# Altium schematic symbol library HARSH_Payload_SchLib.SchLib: 93 symbols (part 1 of 4)
Pins are listed as number, name and electrical type; pins without a type are passive.

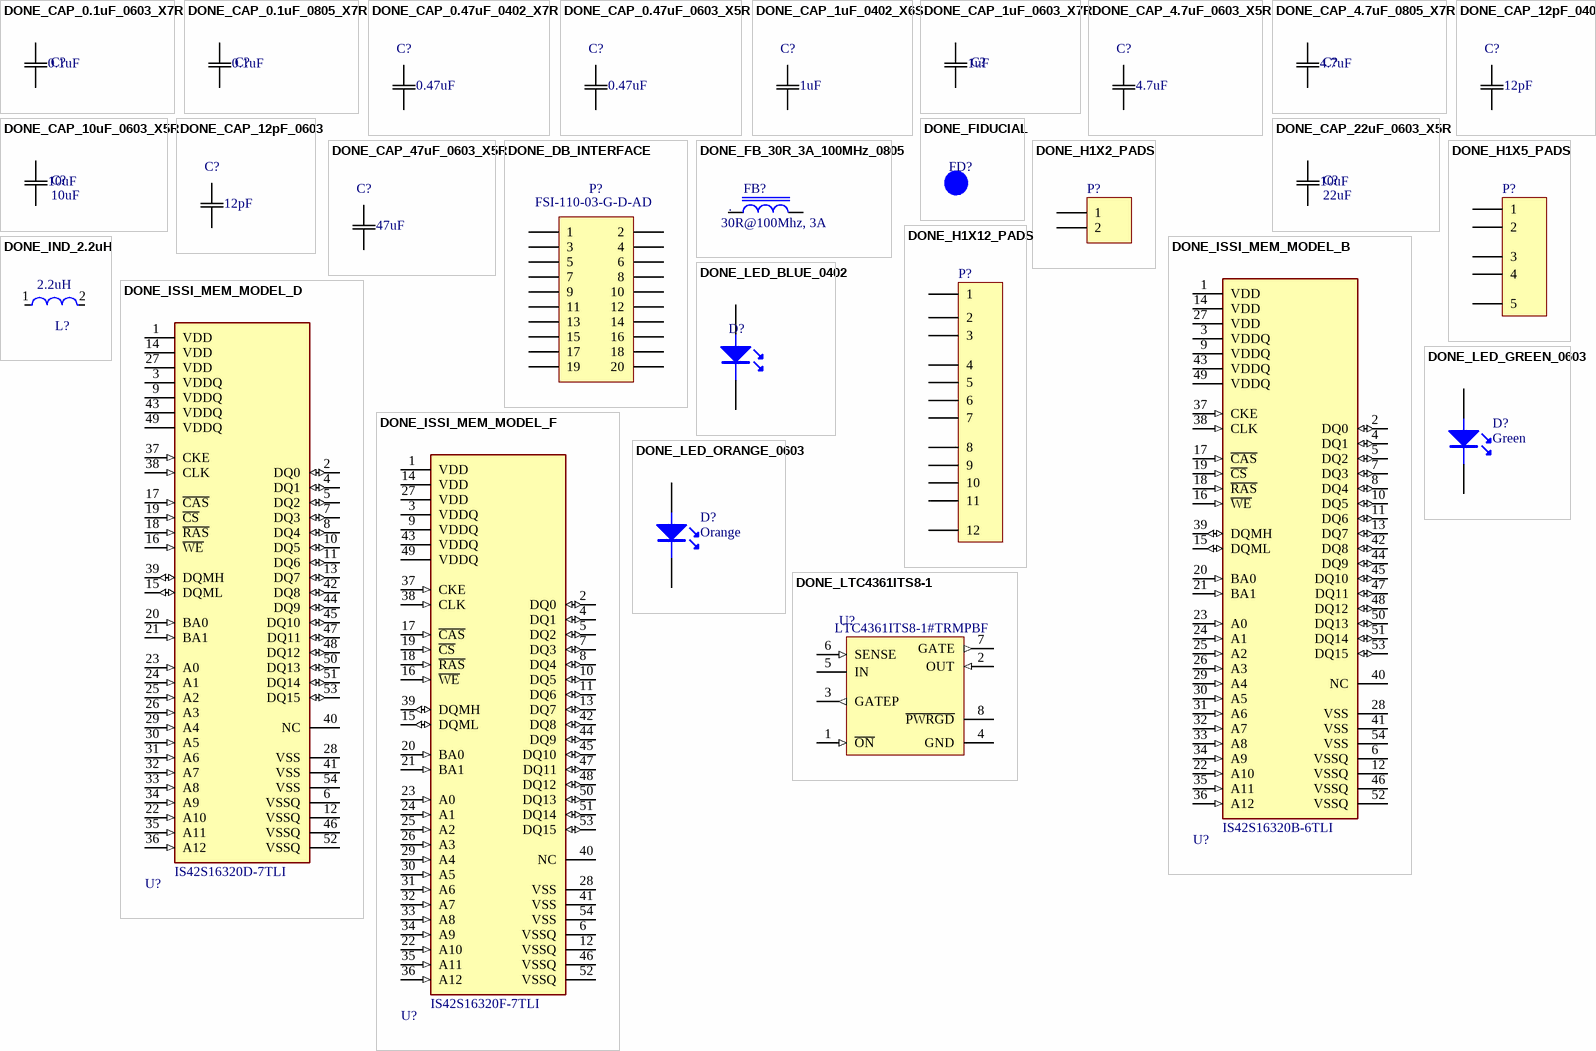
[diagram p0: symbols DONE_CAP_0.1uF_0603_X7R to DONE_LTC4361ITS8-1]

## DONE_CAP_0.1uF_0603_X7R
designator C?, comment Capacitance: 0.1uF  (hidden comment: 100nF/50V)
CAP CER 100nF 50V 0603 10%; Partnumber: C0603C104K5RAC3121; Manufacturer: Yageo; Dielectric: X7R; NCM: 8532.24.10; ComponentLink1Description: https://www.digikey.com/product-detail/en/yageo/CC0201KRX7R9BB101/311-1401-1-ND/2833707; ComponentLink1URL: https://www.digikey.com/product-detail/en/yageo/CC0201KRX7R9BB101/311-1401-1-ND/2833707; ComponentLink2Description: https://br.mouser.com/ProductDetail/Yageo/CC0201KRX7R9BB101?qs=%2Fha2pyFaduiYipKOFrxfqt3%252B9aGSfhofiweIoBBppi5CkwQHqUahpQ%3D%3D; ComponentLink2URL: https://br.mouser.com/ProductDetail/Yageo/CC0201KRX7R9BB101?qs=%2Fha2pyFaduiYipKOFrxfqt3%252B9aGSfhofiweIoBBppi5CkwQHqUahpQ%3D%3D; Supplier 1: Digi-Key; Supplier Part Number 1: 311-1401-1-ND; Stock 1: 203642; Pricing 1: 1=0.1, 10=0.017, 100=0.0078, 500=0.00554, 1000=0.00436, 2500=0.00396, 5000=0.00364 (USD); Mount: Surface Mount; Case/Package: 0201; Weight: 6E-06oz; Case Code (Metric): 0603; Case Code (Imperial): 0201; Min Operating Temperature: -55°C; Max Operating Temperature: 125°C; Tolerance: 10%; Package Quantity: 1; Voltage Rating: 50V; Packaging: Tape and Reel; Voltage Rating (DC): 50V; Termination: SMD/SMT; Composition: Ceramic; Length: 0.6mm; Height: 0.3mm; Width: 0.012inch; Thickness: 0.013inch; Depth: 0.3mm; Radiation Hardening: No; Lead Free: Lead Free; Halogen Free: Halogen Free; ComponentLink3URL: http://www.yageo.com/documents/recent/UPY-GPHC_X7R_6.3V-to-50V_18.pdf?src-supplier=Digi-Key; ComponentLink3Description: http://www.yageo.com/documents/recent/UPY-GPHC_X7R_6.3V-to-50V_18.pdf?src-supplier=Digi-Key; ComponentLink4URL: http://www.yageo.com/documents/recent/UPY-GPHC_X7R_6.3V-to-50V_8.pdf?src-supplier=Avnet+Europe; ComponentLink4Description: http://www.yageo.com/documents/recent/UPY-GPHC_X7R_6.3V-to-50V_8.pdf?src-supplier=Avnet+Europe; ComponentLink5URL: http://www.yageo.com/documents/recent/UPY-GPHC_X7R_6.3V-to-50V_8.pdf?src-supplier=Avnet; ComponentLink5Description: http://www.yageo.com/documents/recent/UPY-GPHC_X7R_6.3V-to-50V_8.pdf?src-supplier=Avnet; ComponentLink6URL: http://www.mouser.com/ds/2/447/Yageo_UPY-GP_NP0_16V-to-50V_9-358835.pdf?src-supplier=Mouser; ComponentLink6Description: http://www.mouser.com/ds/2/447/Yageo_UPY-GP_NP0_16V-to-50V_9-358835.pdf?src-supplier=Mouser; Supplier 2: Mouser; Supplier Part Number 2: 603-CC201KRX7R9BB101; Stock 2: 51204; Pricing 2: 1=0.1, 10=0.024, 100=0.011, 1000=0.009, 2500=0.006, 10000=0.006 (USD)
footprint DONE_C0603 (Chip Capacitor, Body 1.6x0.8mm, IPC Medium Density)
pins: 1, 2

## DONE_CAP_0.1uF_0805_X7R
designator C?, comment Capacitance: 0.1uF  (hidden comment: 0.1uF/25V)
CAP CER 0.1UF 25V 10% X7R 0805; Partnumber: CC0805KRX7R8BB104; Manufacturer: Yageo; Material: Ceramic; Insulation Resistance: 100GR; NCM: 8532.24.10; Stock 1: 243958; Pricing 1: 1=0.14, 10=0.097, 100=0.0458, 500=0.0321, 1000=0.02658 (USD); Mount: Surface Mount; Case/Package: 0805; Number of Pins: 2; Case Code (Metric): 2012; Case Code (Imperial): 0805; Min Operating Temperature: -55°C; Max Operating Temperature: 125°C; Tolerance: 10%; Dielectric: X7R; Package Quantity: 1; Voltage Rating: 25V; Packaging: Tape and Reel; Voltage Rating (DC): 25V; Termination: SMD/SMT; Composition: Ceramic; Length: 2mm; Height: 0.85mm; Depth: 1.25mm; Width: 0.049inch; Thickness: 0.033inch; Radiation Hardening: No; REACH SVHC: No SVHC; Lead Free: Lead Free; Halogen Free: Halogen Free; ComponentLink3URL: http://www.yageo.com/documents/recent/UPY-GPHC_X7R_6.3V-to-50V_18.pdf?src-supplier=Digi-Key; ComponentLink3Description: http://www.yageo.com/documents/recent/UPY-GPHC_X7R_6.3V-to-50V_18.pdf?src-supplier=Digi-Key; ComponentLink4URL: http://www.farnell.com/datasheets/1489800.pdf?src-supplier=Element14; ComponentLink4Description: http://www.farnell.com/datasheets/1489800.pdf?src-supplier=Element14; ComponentLink5URL: http://www.farnell.com/datasheets/1850775.pdf?src-supplier=Element14; ComponentLink5Description: http://www.farnell.com/datasheets/1850775.pdf?src-supplier=Element14; ComponentLink6URL: https://www.verical.com/server-webapp/html/getDatasheet?partID=330244&src-supplier=Verical; ComponentLink6Description: https://www.verical.com/server-webapp/html/getDatasheet?partID=330244&src-supplier=Verical; ComponentLink7URL: http://www.yageo.com/documents/recent/UPY-GPHC_X7R_6.3V-to-50V_8.pdf?src-supplier=Avnet+Europe; ComponentLink7Description: http://www.yageo.com/documents/recent/UPY-GPHC_X7R_6.3V-to-50V_8.pdf?src-supplier=Avnet+Europe; ComponentLink8URL: http://www.farnell.com/datasheets/1784427.pdf?src-supplier=Element14; ComponentLink8Description: http://www.farnell.com/datasheets/1784427.pdf?src-supplier=Element14; ComponentLink9URL: http://www.farnell.com/datasheets/70765.pdf?src-supplier=Element14; ComponentLink9Description: http://www.farnell.com/datasheets/70765.pdf?src-supplier=Element14; Stock 2: 131050; Pricing 2: 1=0.11, 10=0.08, 100=0.03, 1000=0.025, 4000=0.019, 8000=0.018, 24000=0.015, 48000=0.014, 100000=0.013 (USD); ComponentLink1URL: http://www.yageo.com/documents/recent/UPY-GPHC_X7R_6.3V-to-50V_18.pdf?src-supplier=Digi-Key; ComponentLink1Description: http://www.yageo.com/documents/recent/UPY-GPHC_X7R_6.3V-to-50V_18.pdf?src-supplier=Digi-Key; ComponentLink2URL: http://www.farnell.com/datasheets/1489800.pdf?src-supplier=Element14; ComponentLink2Description: http://www.farnell.com/datasheets/1489800.pdf?src-supplier=Element14; Supplier Part Number 2: 603-CC805KRX7R8BB104; Supplier Part Number 1: 311-1141-1-ND; Supplier 2: Mouser; Supplier 1: Digi-Key; Manufacturer Part Number: CC0805KRX7R8BB104
footprint DONE_C0805 (Chip Capacitor, Body 2.0x1.3mm, IPC Medium Density)
pins: 1, 2

## DONE_CAP_0.47uF_0402_X7R
designator C?, comment value 0.47uF  (hidden comment: GRM155R71A474KE01D)
CAP CER 0.47UF 10V X7R 0402; Manufacturer: Murata; Mount Type: SMD; Category: Ceramic; Dielectric: X7R; Supplier 1: Allied; Supplier 2: Mouser; Supplier 3: Newark; Supplier 4: Digi-Key; Supplier 5: Farnell; Supplier Part Number 1: 70096227; Partnumber: GRM155R71A474KE01D; Voltage: 10V
footprint DONE_C0402 (0402M)
pins: 1, 2

## DONE_CAP_0.47uF_0603_X5R
designator C?, comment value 0.47uF  (hidden comment: LMK063BBJ474MPLF)
CAP CER 0.47UF 10V 20% X5R 0603; Manufacturer: Kemet; Mount Type: SMD; Category: Ceramic; Dielectric: X5R; Supplier 1: Allied; Supplier 2: Mouser; Supplier 3: Newark; Supplier 4: Digi-Key; Supplier 5: Farnell; Supplier Part Number 1: 70096227; Partnumber: LMK063BBJ474MPLF; Voltage: 10V
footprint DONE_C0603 (Chip Capacitor, Body 1.6x0.8mm, IPC Medium Density)
pins: 1, 2

## DONE_CAP_1uF_0402_X6S
designator C?, comment 1uF
CAP CER 1uF 10V 10% X6S 0402; Manufacturer_Part_Number: CGB2A1X6S1A105M033BC; Vendor: TDK; Built_By: EMA_UL_Team; Type: DEV; C: Copyright (C) 2015 Accelerated Designs. All rights reserved; Tolerance: 20%; RefDes: RefDes; Value: Value; Supplier 1: Digi-Key; Manufacturer: TDK; Partnumber: CGB2A1X6S1A105M033BC; Stock 1: 100468; Pricing 1: 1=0.24, 10=0.173, 100=0.0813, 500=0.057, 1000=0.0472, 2500=0.0439, 5000=0.0402 (USD); Mount: Surface Mount; Case/Package: 0402; Case Code (Metric): 1005; Case Code (Imperial): 0402; Min Operating Temperature: -55°C; Max Operating Temperature: 105°C; Package Quantity: 10000; Packaging: Tape and Reel; Voltage Rating: 10V; Dielectric: X6S; Termination: SMD/SMT; Composition: Ceramic; Voltage Rating (DC): 10V; Length: 0.039inch; Height: 0.33mm; Width: 0.02inch; Thickness: 0.013inch; ComponentLink1URL: https://product.tdk.com/info/en/catalog/datasheets/mlcc_commercial_lowprofile_en.pdf; ComponentLink1Description: https://product.tdk.com/info/en/catalog/datasheets/mlcc_commercial_lowprofile_en.pdf; ComponentLink2URL: http://product.tdk.com/en/catalog/datasheets/mlcc_commercial_lowprofile_en.pdf; ComponentLink2Description: http://product.tdk.com/en/catalog/datasheets/mlcc_commercial_lowprofile_en.pdf; ComponentLink3URL: http://www.mouser.com/ds/2/400/lcc_commercial_lowprofile_en-520027.pdf; ComponentLink3Description: http://www.mouser.com/ds/2/400/lcc_commercial_lowprofile_en-520027.pdf; Supplier Part Number 1: 445-13192-1-ND; Capacitance: 1uF
footprint DONE_C0402 (0402M)
pins: 1, 2

## DONE_CAP_1uF_0603_X7R
designator C?, comment 1uF
CAP CER 1.0uF 25V 0603; Partnumber: GRM188R71E105KA12D; Value: 1uF
footprint DONE_C0603 (Chip Capacitor, Body 1.6x0.8mm, IPC Medium Density)
pins: 1, 2

## DONE_CAP_4.7uF_0603_X5R
designator C?, comment 4.7uF
CAP CER 4.7UF 10V 10% X5R 0603; Partnumber: C0603C475K8PACTU; Category: Ceramic; Dielectric: X5R; Voltage: 10V; Value: 4.7uF
footprint DONE_C0603 (Chip Capacitor, Body 1.6x0.8mm, IPC Medium Density)
pins: 1, 2

## DONE_CAP_4.7uF_0805_X7R
designator C?, comment Capacitance: 4.7uF  (hidden comment: 4.7uF/25V)
CAP CER 4.7UF 25V 10% X7R 0805; Partnumber: C0805C475K3RACAUTO; Manufacturer: Taiyo Yuden; Manufacturer Part Number: TMK212AB7475KG-T; NCM: 8532.24.10; ComponentLink1Description: https://www.digikey.com/product-detail/en/taiyo-yuden/TMK212AB7475KG-T/587-2990-2-ND/2714168; ComponentLink1URL: https://www.digikey.com/product-detail/en/taiyo-yuden/TMK212AB7475KG-T/587-2990-2-ND/2714168; ComponentLink2Description: https://br.mouser.com/ProductDetail/Taiyo-Yuden/TMK212AB7475KG-T?qs=%2Fha2pyFaduhOmvqoBXaf2AOtUPA8upoo0e72F1hCYb1lacT8UkHI0g%3D%3D; ComponentLink2URL: https://br.mouser.com/ProductDetail/Taiyo-Yuden/TMK212AB7475KG-T?qs=%2Fha2pyFaduhOmvqoBXaf2AOtUPA8upoo0e72F1hCYb1lacT8UkHI0g%3D%3D; Stock 1: 1594936; Pricing 1: 1=0.35, 10=0.243, 100=0.1376, 500=0.09716, 1000=0.08501 (USD); Mount: Surface Mount; Case/Package: 0805; Number of Pins: 2; Case Code (Metric): 2012; Case Code (Imperial): 0805; Min Operating Temperature: -55°C; Max Operating Temperature: 125°C; Package Quantity: 1; Voltage Rating: 25V; Tolerance: 10%; Packaging: Tape and Reel; Voltage Rating (DC): 25V; Dielectric: X7R; Termination: SMD/SMT; Composition: Ceramic; Length: 2mm; Height: 1.25mm; Width: 0.049inch; Thickness: 0.053inch; Depth: 1.25mm; Radiation Hardening: No; REACH SVHC: Unknown; ComponentLink3URL: https://www.yuden.co.jp/productdata/catalog/mlcc_all_e.pdf?src-supplier=Digi-Key; ComponentLink3Description: https://www.yuden.co.jp/productdata/catalog/mlcc_all_e.pdf?src-supplier=Digi-Key; ComponentLink4URL: http://www.yuden.co.jp/ut/product/category/capacitor/TMK212AB7475KG-T.pdf?src-supplier=Avnet; ComponentLink4Description: http://www.yuden.co.jp/ut/product/category/capacitor/TMK212AB7475KG-T.pdf?src-supplier=Avnet; ComponentLink5URL: http://www.farnell.com/datasheets/1481447.pdf?src-supplier=Element14; ComponentLink5Description: http://www.farnell.com/datasheets/1481447.pdf?src-supplier=Element14; ComponentLink6URL: http://www.onlinecomponents.com/productFiles/mf-TAI/461tmk212ab7475kg-t.pdf?src-supplier=Onlinecomponents.com; ComponentLink6Description: http://www.onlinecomponents.com/productFiles/mf-TAI/461tmk212ab7475kg-t.pdf?src-supplier=Onlinecomponents.com; Supplier 1: Digi-Key; Supplier Part Number 1: 587-2990-6-ND; Supplier 2: Mouser; Supplier Part Number 2: 963-TMK212AB7475KG-T; Stock 2: 326053; Pricing 2: 1=0.27, 10=0.124, 100=0.083, 500=0.074, 1000=0.065, 3000=0.054 (USD)
footprint DONE_C0805 (Chip Capacitor, Body 2.0x1.3mm, IPC Medium Density)
pins: 1, 2

## DONE_CAP_10uF_0603_X5R
designator C?, comment 10uF
CAP CER 10uF 16V 0603 X5R; Partnumber: GRM188R61C106KAALD; Manufacturer: Murata; Tolerance: 10%; NCM: 8532.24.10; Supplier 1: Digi-Key; Manufacturer Part Number: GRM188R61C106KAALD; Stock 1: 0; Pricing 1: 1=0.43, 10=0.302, 100=0.1811, 500=0.1358, 1000=0.1147 (USD); Mount: Surface Mount; Case/Package: 0603; Weight: 0.000222oz; Case Code (Metric): 1608; Case Code (Imperial): 0603; Min Operating Temperature: -55°C; Max Operating Temperature: 85°C; Packaging: Tape and Reel; Voltage Rating: 16V; Dielectric: X5R; Termination: SMD/SMT; Composition: Ceramic; Voltage Rating (DC): 16V; Package Quantity: 4000; Length: 0.063inch; Height: 0.8mm; Width: 0.8mm; Thickness: 0.037inch; REACH SVHC: No SVHC; Lead Free: Lead Free; ComponentLink1URL: http://www.farnell.com/datasheets/2079167.pdf; ComponentLink1Description: http://www.farnell.com/datasheets/2079167.pdf; ComponentLink2URL: http://www.mouser.com/ds/2/281/c02e-2905.pdf; ComponentLink2Description: http://www.mouser.com/ds/2/281/c02e-2905.pdf; ComponentLink3URL: http://search.murata.co.jp/Ceramy/image/img/A01X/partnumbering_e_01.pdf; ComponentLink3Description: http://search.murata.co.jp/Ceramy/image/img/A01X/partnumbering_e_01.pdf; Supplier Part Number 1: 490-10728-1-ND; Capacitance: 10uF
footprint DONE_C0603 (Chip Capacitor, Body 1.6x0.8mm, IPC Medium Density)
pins: 1, 2

## DONE_CAP_12pF_0402
designator C?, comment 12pF
CAP CER 12PF 50V C0G/NP0 0402; Partnumber: GRM1555C1H120GA01D; Case Code (Imperial): 0402; Voltage Rating: 50V; Voltage Rating (DC): 50v; Capacitance: 12pF
footprint DONE_C0402 (0402M)
pins: 1, 2

## DONE_CAP_12pF_0603
designator C?, comment 12pF
CAP CER 12PF 50V C0G/NPO 0603; Partnumber: CC0603JRNPO9BN120; Case Code (Imperial): 0603; Voltage Rating: 50V; Voltage Rating (DC): 50v; Capacitance: 12pF
footprint DONE_C0603 (Chip Capacitor, Body 1.6x0.8mm, IPC Medium Density)
pins: 1, 2

## DONE_CAP_22uF_0603_X5R
designator C?, comment 22uF  Capacitance: 10uF
CAP CER 22UF 10V X5R 0603; Partnumber: CL10A226MPCNUBE; ComponentLink1URL: http://www.farnell.com/datasheets/2079167.pdf; ComponentLink1Description: http://www.farnell.com/datasheets/2079167.pdf; ComponentLink2URL: http://www.mouser.com/ds/2/281/c02e-2905.pdf; ComponentLink2Description: http://www.mouser.com/ds/2/281/c02e-2905.pdf; ComponentLink3URL: http://search.murata.co.jp/Ceramy/image/img/A01X/partnumbering_e_01.pdf; ComponentLink3Description: http://search.murata.co.jp/Ceramy/image/img/A01X/partnumbering_e_01.pdf
footprint DONE_C0603 (Chip Capacitor, Body 1.6x0.8mm, IPC Medium Density)
pins: 1, 2

## DONE_CAP_47uF_0603_X5R
designator C?, comment value 47uF  (hidden comment: ZRB18AR60J476ME01L)
CAP CER 47UF 6.3V 20% X5R 0603; Voltage: 10V; Partnumber: ZRB18AR60J476ME01L
footprint DONE_C0603 (Chip Capacitor, Body 1.6x0.8mm, IPC Medium Density)
pins: 1, 2

## DONE_DB_INTERFACE
designator P?, comment FSI-110-03-G-D-AD
CONN STACKING 20POS SMD GOLD; Manufacturer: Samtec; Number of Contacts: 20; Gender: Male; Pitch: 1mm; Value: *; Partnumber: FSI-110-03-G-D-AD; ComponentLink1Description: https://www.digikey.com/product-detail/en/samtec-inc/FSI-110-03-G-D-AD/SAM9412-ND/6678149; ComponentLink1URL: https://www.digikey.com/product-detail/en/samtec-inc/FSI-110-03-G-D-AD/SAM9412-ND/6678149; ComponentLink2Description: https://br.mouser.com/ProductDetail/Samtec/FSI-110-03-G-D-AD?qs=sGAEpiMZZMvffgRu4KC1RxM6nKwEP14AvPoIU%2FGiIRnIunfAN0MvNQ%3D%3D; ComponentLink2URL: https://br.mouser.com/ProductDetail/Samtec/FSI-110-03-G-D-AD?qs=sGAEpiMZZMvffgRu4KC1RxM6nKwEP14AvPoIU%2FGiIRnIunfAN0MvNQ%3D%3D; Supplier 1: Digi-Key; Supplier Part Number 1: SAM9412-ND; Stock 1: 100; Pricing 1: 1=6.6, 10=6.325, 25=5.7752, 50=5.5, 100=5.225, 250=4.675, 500=4.4, 1000=3.85, 2500=3.6575 (USD); Mount: Surface Mount; Contact Plating: Gold; Contact Material: Copper; Number of Rows: 2; Termination: Solder; Radiation Hardening: No; REACH SVHC: No SVHC; ComponentLink3URL: http://www.samtec.com/ftppub/pdf/FSI_03.PDF?src-supplier=Avnet+Europe; ComponentLink3Description: http://www.samtec.com/ftppub/pdf/FSI_03.PDF?src-supplier=Avnet+Europe; Supplier 2: Mouser; Supplier Part Number 2: 200-FSI11003GDAD; Stock 2: 50; Pricing 2: 1=6.59, 10=5.5, 100=4.68, 250=4.17, 500=3.84, 1000=3.6 (USD); Manufacturer Part Number: FSI-110-03-G-D-AD
footprint DONE_DB_INTERFACE (Mating FSI-110-03-G-D-AD)
pins: 1, 2, 3, 4, 5, 6, 7, 8, 9, 10, 11, 12, 13, 14, 15, 16, 17, 18, 19, 20

## DONE_FB_30R_3A_100MHz_0805
designator FB?, comment 30R@100Mhz, 3A
Ferrite Bead 30 OHM 3A 100MHz; Partnumber: BLM21PG300SN1D; NCM: 8504.50.00
footprint DONE_L0805 (Chip Inductor, Body 2.0x1.3mm, IPC Medium Density)
pins: 1, 2
text: .

## DONE_FIDUCIAL
designator FD?
Fiducial for DB board variants
footprint DONE_FIDUCIAL (Fiducial 1.3mm)

## DONE_H1X2_PADS
designator P?, comment Header 2  (value not drawn)
Header, 2-Pin; LatestRevisionDate: 17-Jul-2002; LatestRevisionNote: Re-released for DXP Platform.; Publisher: Altium Limited
signal-integrity model Connector
footprint DONE_H1X2_PADS (Connector, Header 2.54mm, 2 Positions, Pads Only)
pins: 1, 2

## DONE_H1X5_PADS
designator P?, comment Header 5H  (value not drawn)
Header, 5-Pin, Pads; LatestRevisionDate: 17-Jul-2002; LatestRevisionNote: Re-released for DXP Platform.; Publisher: Altium Limited
footprint DONE_H1X5_PADS (Connector, Header 2.54mm, 5 Positions, Pads Only)
pins: 1, 2, 3, 4, 5

## DONE_H1X12_PADS
designator P?, comment Header 12H  (value not drawn)
Header, 12-Pin; LatestRevisionDate: 17-Jul-2002; LatestRevisionNote: Re-released for DXP Platform.; Publisher: Altium Limited
footprint DONE_H1X12_PADS (Connector, Header 2.54mm, 12 Positions, Pads Only)
pins: 1, 2, 3, 4, 5, 6, 7, 8, 9, 10, 11, 12

## DONE_IND_2.2uH
designator L?  value 2.2uH  (hidden comment: *)
Inductor Power Chip Shielded Wirewound 2.2uH 20% 1MHz Ferrite 1.8A 0.0588Ohm DCR 1515 T/R; Partnumber: LQH44PN2R2MP0L
footprint DONE_IND_2.2uH (Murata_LQH44PN3R3MP0L)
pins: 1, 2

## DONE_ISSI_MEM_MODEL_B
designator U?, comment IS42S16320B-6TLI
DRAM 512M, 3.3V, SDRAM, 32Mx16, 143MHz, 54 pin TSOP II; Partnumber: IS42S16320B-6TLI
footprint DONE_ISSI_MEM_TSOP_54 (ISSI_TSOP-54-22.22000X10.16000_IPC_A)
pins: 1 VDD (power), 2 DQ0 (io), 3 VDDQ (power), 4 DQ1 (io), 5 DQ2 (io), 6 VSSQ (power), 7 DQ3 (io), 8 DQ4 (io), 9 VDDQ (power), 10 DQ5 (io), 11 DQ6 (io), 12 VSSQ (power), 13 DQ7 (io), 14 VDD (power), 15 DQML (io), 16 ~{WE} (in), 17 ~{CAS} (in), 18 ~{RAS} (in), 19 ~{CS} (in), 20 BA0 (in), 21 BA1 (in), 22 A10 (in), 23 A0 (in), 24 A1 (in), 25 A2 (in), 26 A3 (in), 27 VDD (power), 28 VSS (power), 29 A4 (in), 30 A5 (in), 31 A6 (in), 32 A7 (in), 33 A8 (in), 34 A9 (in), 35 A11 (in), 36 A12 (in), 37 CKE (in), 38 CLK (in), 39 DQMH (io), 40 NC, 41 VSS (power), 42 DQ8 (io), 43 VDDQ (power), 44 DQ9 (io), 45 DQ10 (io), 46 VSSQ (power), 47 DQ11 (io), 48 DQ12 (io), 49 VDDQ (power), 50 DQ13 (io), 51 DQ14 (io), 52 VSSQ (power), 53 DQ15 (io), 54 VSS (power)

## DONE_ISSI_MEM_MODEL_D
designator U?, comment IS42S16320D-7TLI
DRAM 512M, 3.3V, SDRAM, 32Mx16, 143MHz, 54 pin TSOP II; Partnumber: IS42S16320D-7TLI
footprint DONE_ISSI_MEM_TSOP_54 (ISSI_TSOP-54-22.22000X10.16000_IPC_A)
pins: 1 VDD (power), 2 DQ0 (io), 3 VDDQ (power), 4 DQ1 (io), 5 DQ2 (io), 6 VSSQ (power), 7 DQ3 (io), 8 DQ4 (io), 9 VDDQ (power), 10 DQ5 (io), 11 DQ6 (io), 12 VSSQ (power), 13 DQ7 (io), 14 VDD (power), 15 DQML (io), 16 ~{WE} (in), 17 ~{CAS} (in), 18 ~{RAS} (in), 19 ~{CS} (in), 20 BA0 (in), 21 BA1 (in), 22 A10 (in), 23 A0 (in), 24 A1 (in), 25 A2 (in), 26 A3 (in), 27 VDD (power), 28 VSS (power), 29 A4 (in), 30 A5 (in), 31 A6 (in), 32 A7 (in), 33 A8 (in), 34 A9 (in), 35 A11 (in), 36 A12 (in), 37 CKE (in), 38 CLK (in), 39 DQMH (io), 40 NC, 41 VSS (power), 42 DQ8 (io), 43 VDDQ (power), 44 DQ9 (io), 45 DQ10 (io), 46 VSSQ (power), 47 DQ11 (io), 48 DQ12 (io), 49 VDDQ (power), 50 DQ13 (io), 51 DQ14 (io), 52 VSSQ (power), 53 DQ15 (io), 54 VSS (power)

## DONE_ISSI_MEM_MODEL_F
designator U?, comment IS42S16320F-7TLI
DRAM 512M, 3.3V, SDRAM, 32Mx16, 143MHz, 54 pin TSOP II; Partnumber: IS42S16320F-7TLI
footprint DONE_ISSI_MEM_TSOP_54 (ISSI_TSOP-54-22.22000X10.16000_IPC_A)
pins: 1 VDD (power), 2 DQ0 (io), 3 VDDQ (power), 4 DQ1 (io), 5 DQ2 (io), 6 VSSQ (power), 7 DQ3 (io), 8 DQ4 (io), 9 VDDQ (power), 10 DQ5 (io), 11 DQ6 (io), 12 VSSQ (power), 13 DQ7 (io), 14 VDD (power), 15 DQML (io), 16 ~{WE} (in), 17 ~{CAS} (in), 18 ~{RAS} (in), 19 ~{CS} (in), 20 BA0 (in), 21 BA1 (in), 22 A10 (in), 23 A0 (in), 24 A1 (in), 25 A2 (in), 26 A3 (in), 27 VDD (power), 28 VSS (power), 29 A4 (in), 30 A5 (in), 31 A6 (in), 32 A7 (in), 33 A8 (in), 34 A9 (in), 35 A11 (in), 36 A12 (in), 37 CKE (in), 38 CLK (in), 39 DQMH (io), 40 NC, 41 VSS (power), 42 DQ8 (io), 43 VDDQ (power), 44 DQ9 (io), 45 DQ10 (io), 46 VSSQ (power), 47 DQ11 (io), 48 DQ12 (io), 49 VDDQ (power), 50 DQ13 (io), 51 DQ14 (io), 52 VSSQ (power), 53 DQ15 (io), 54 VSS (power)

## DONE_LED_BLUE_0402
designator D?, comment Blue  (value not drawn)
Manufacturer: Kingbright; Partnumber: APHHS1005LQBC/D-V; Supplier 1: Digi-Key; Stock 1: 2163; Pricing 1: 1=0.5, 10=0.39, 25=0.3252, 100=0.2803, 250=0.2502, 500=0.2152, 1000=0.1662 (USD); Supplier Part Number 1: 754-2122-1-ND; ComponentLink1Description: Datasheet; ComponentLink1URL: http://www.kingbrightusa.com/images/catalog/SPEC/APHHS1005LQBC-D-V.pdf
footprint DONE_D0402 (LED, 0402)
pins: 1 A, 2 K

## DONE_LED_GREEN_0603
designator D?, comment Green
SMD Green LED; Partnumber: HSMQ-C191-T0000; ComponentLink1Description: https://www.digikey.com/product-detail/en/lite-on-inc/LTST-C170KFKT/160-1413-1-ND/386774; ComponentLink1URL: https://www.digikey.com/product-detail/en/lite-on-inc/LTST-C170KFKT/160-1413-1-ND/386774; ComponentLink2Description: https://br.mouser.com/ProductDetail/Lite-On/LTST-C170KFKT?qs=%2Fha2pyFadugHsX7bdQzWjMrioqtf8F%2FEFUVxYkqdVx%252BrRWuVMVludQ%3D%3D; ComponentLink2URL: https://br.mouser.com/ProductDetail/Lite-On/LTST-C170KFKT?qs=%2Fha2pyFadugHsX7bdQzWjMrioqtf8F%2FEFUVxYkqdVx%252BrRWuVMVludQ%3D%3D; ComponentLink3URL: https://www.verical.com/server-webapp/html/getDatasheet?partID=158266&src-supplier=Verical; ComponentLink3Description: https://www.verical.com/server-webapp/html/getDatasheet?partID=158266&src-supplier=Verical; ComponentLink4URL: http://optoelectronics.liteon.com/upload/download/DS-22-99-0185/LTST-C170KFKT.pdf?src-supplier=Digi-Key; ComponentLink4Description: http://optoelectronics.liteon.com/upload/download/DS-22-99-0185/LTST-C170KFKT.pdf?src-supplier=Digi-Key; ComponentLink5URL: http://www1.futureelectronics.com/doc/LITE-ON/LTST-C170KFKT.pdf?src-supplier=Future+Electronics; ComponentLink5Description: http://www1.futureelectronics.com/doc/LITE-ON/LTST-C170KFKT.pdf?src-supplier=Future+Electronics; ComponentLink6URL: http://www.mouser.com/ds/2/239/Lite-On-LTST-C170KFKT-187690.pdf?src-supplier=Mouser; ComponentLink6Description: http://www.mouser.com/ds/2/239/Lite-On-LTST-C170KFKT-187690.pdf?src-supplier=Mouser
footprint DONE_D0603_GREEN (Chip Diode/Led, Body 1.6x0.8mm, IPC Medium Density)
pins: 1 A, 2 K

## DONE_LED_ORANGE_0603
designator D?, comment Orange
SMD Orange LED; Partnumber: HSML-C191-T0000; ComponentLink1Description: https://www.digikey.com/product-detail/en/lite-on-inc/LTST-C170KFKT/160-1413-1-ND/386774; ComponentLink1URL: https://www.digikey.com/product-detail/en/lite-on-inc/LTST-C170KFKT/160-1413-1-ND/386774; ComponentLink2Description: https://br.mouser.com/ProductDetail/Lite-On/LTST-C170KFKT?qs=%2Fha2pyFadugHsX7bdQzWjMrioqtf8F%2FEFUVxYkqdVx%252BrRWuVMVludQ%3D%3D; ComponentLink2URL: https://br.mouser.com/ProductDetail/Lite-On/LTST-C170KFKT?qs=%2Fha2pyFadugHsX7bdQzWjMrioqtf8F%2FEFUVxYkqdVx%252BrRWuVMVludQ%3D%3D; ComponentLink3URL: https://www.verical.com/server-webapp/html/getDatasheet?partID=158266&src-supplier=Verical; ComponentLink3Description: https://www.verical.com/server-webapp/html/getDatasheet?partID=158266&src-supplier=Verical; ComponentLink4URL: http://optoelectronics.liteon.com/upload/download/DS-22-99-0185/LTST-C170KFKT.pdf?src-supplier=Digi-Key; ComponentLink4Description: http://optoelectronics.liteon.com/upload/download/DS-22-99-0185/LTST-C170KFKT.pdf?src-supplier=Digi-Key; ComponentLink5URL: http://www1.futureelectronics.com/doc/LITE-ON/LTST-C170KFKT.pdf?src-supplier=Future+Electronics; ComponentLink5Description: http://www1.futureelectronics.com/doc/LITE-ON/LTST-C170KFKT.pdf?src-supplier=Future+Electronics; ComponentLink6URL: http://www.mouser.com/ds/2/239/Lite-On-LTST-C170KFKT-187690.pdf?src-supplier=Mouser; ComponentLink6Description: http://www.mouser.com/ds/2/239/Lite-On-LTST-C170KFKT-187690.pdf?src-supplier=Mouser
footprint DONE_D0603_ORANGE (Chip Diode/Led, Body 1.6x0.8mm, IPC Medium Density)
pins: 1 A, 2 K

## DONE_LTC4361ITS8-1
designator U?, comment LTC4361ITS8-1#TRMPBF
Overvoltage / Overcurrent Protection Controller, 2.5 to 80 V Vin, 8-pin SOT23 (TS8-8), -40 to 85 degC, Pb-Free, Mini Tape and Reel; Manufacturer: Linear Technology; Foldback: no; Circuit Breakers(#): 1; Power Good: yes; Circuit Breaker Threshold: 50 mV; Circuit Breaker Accuracy(%): 10; Extended Temp: C, I, H; Mounting Technology: Surface Mount; ComponentLink1Description: Manufacturer URL; ComponentLink2Description: Datasheet; DatasheetVersion: Rev. B; ComponentLink3URL: http://cds.linear.com/docs/en/packaging/SOT_8_05-08-1637.pdf; ComponentLink1URL: http://www.linear.com/; Active Limiting: no; Code_JEDEC: MO-193; Packing: Mini Tape and Reel; ComponentLink2URL: http://cds.linear.com/docs/en/datasheet/436112fb.pdf; Reset: no; ComponentLink3Description: Package Specification; Fault: no; Fast Comparator: no; PackageVersion: Rev. A, 08/2010; Vin Range: 2.5 to 80 V; RoHS: TRUE; PackageReference: TS8-8; PackageDescription: 8-Pin Plastic TSOT-23, Body 2.9 x 1.63 mm, Pitch 0.65 mm; Partnumber: LTC4361ITS8-1#TRMPBF
footprint DONE_TSOT_23_8 (SOT23, 8-Leads, Body 2.9x1.75mm, Pitch 0.65mm, LT-TS8-8-TSOT-23_V)
pins: 1 ~{ON} (in) "On Control Input. A logic low at O\N\ enables the LTC4361. A logic high at O\N\ activates a low current pull-down at the GATE pin and causes the LTC4361 to enter a low current sleep mode. An internal 5uA current pulls O\N\ (See Datasheet)", 2 OUT (in) "Output Voltage Sense Input for GATE Clamp. Connect to the source of the external N-channel MOSFET to sense the output voltage for GATE to OUT clamp.", 3 GATEP (out) "Gate Drive for External P-Channel MOSFET. GATEP connects to the gate of an optional external P-channel MOSFET to protect against negative voltages at IN. This pin is internally clamped to 5.8V below VIN. An internal 2M (See Datasheet)", 4 GND (power) "Device Ground.", 5 IN (power) "Supply Voltage Input. Connect this pin to the input power supply. This pin has an overvoltage threshold of 5.8V. After an overvoltage event, this pin must fall below VIN(OV) - deltaVOV to release the overvoltage lockout. (See Datasheet)", 6 SENSE (in) "Current Sense Input. Connect a sense resistor between IN and SENSE. An overcurrent protection circuit turns off the N-channel MOSFET when the voltage across the sense resistor exceeds 50mV for more than 10us.", 7 GATE (out) "Gate Drive for External N-Channel MOSFET. An internal charge pump provides a 10uA pull-up current to charge the gate of the external N-channel MOSFET. An additional ramp circuit limits the GATE ramp rate when turning on to (See Datasheet)", 8 ~{PWRGD} (hiz) "Power Good Status. Open-drain output with internal 500k resistive pull-up to OUT. Pulls low 65ms after GATE ramps above VGATE(TH)."

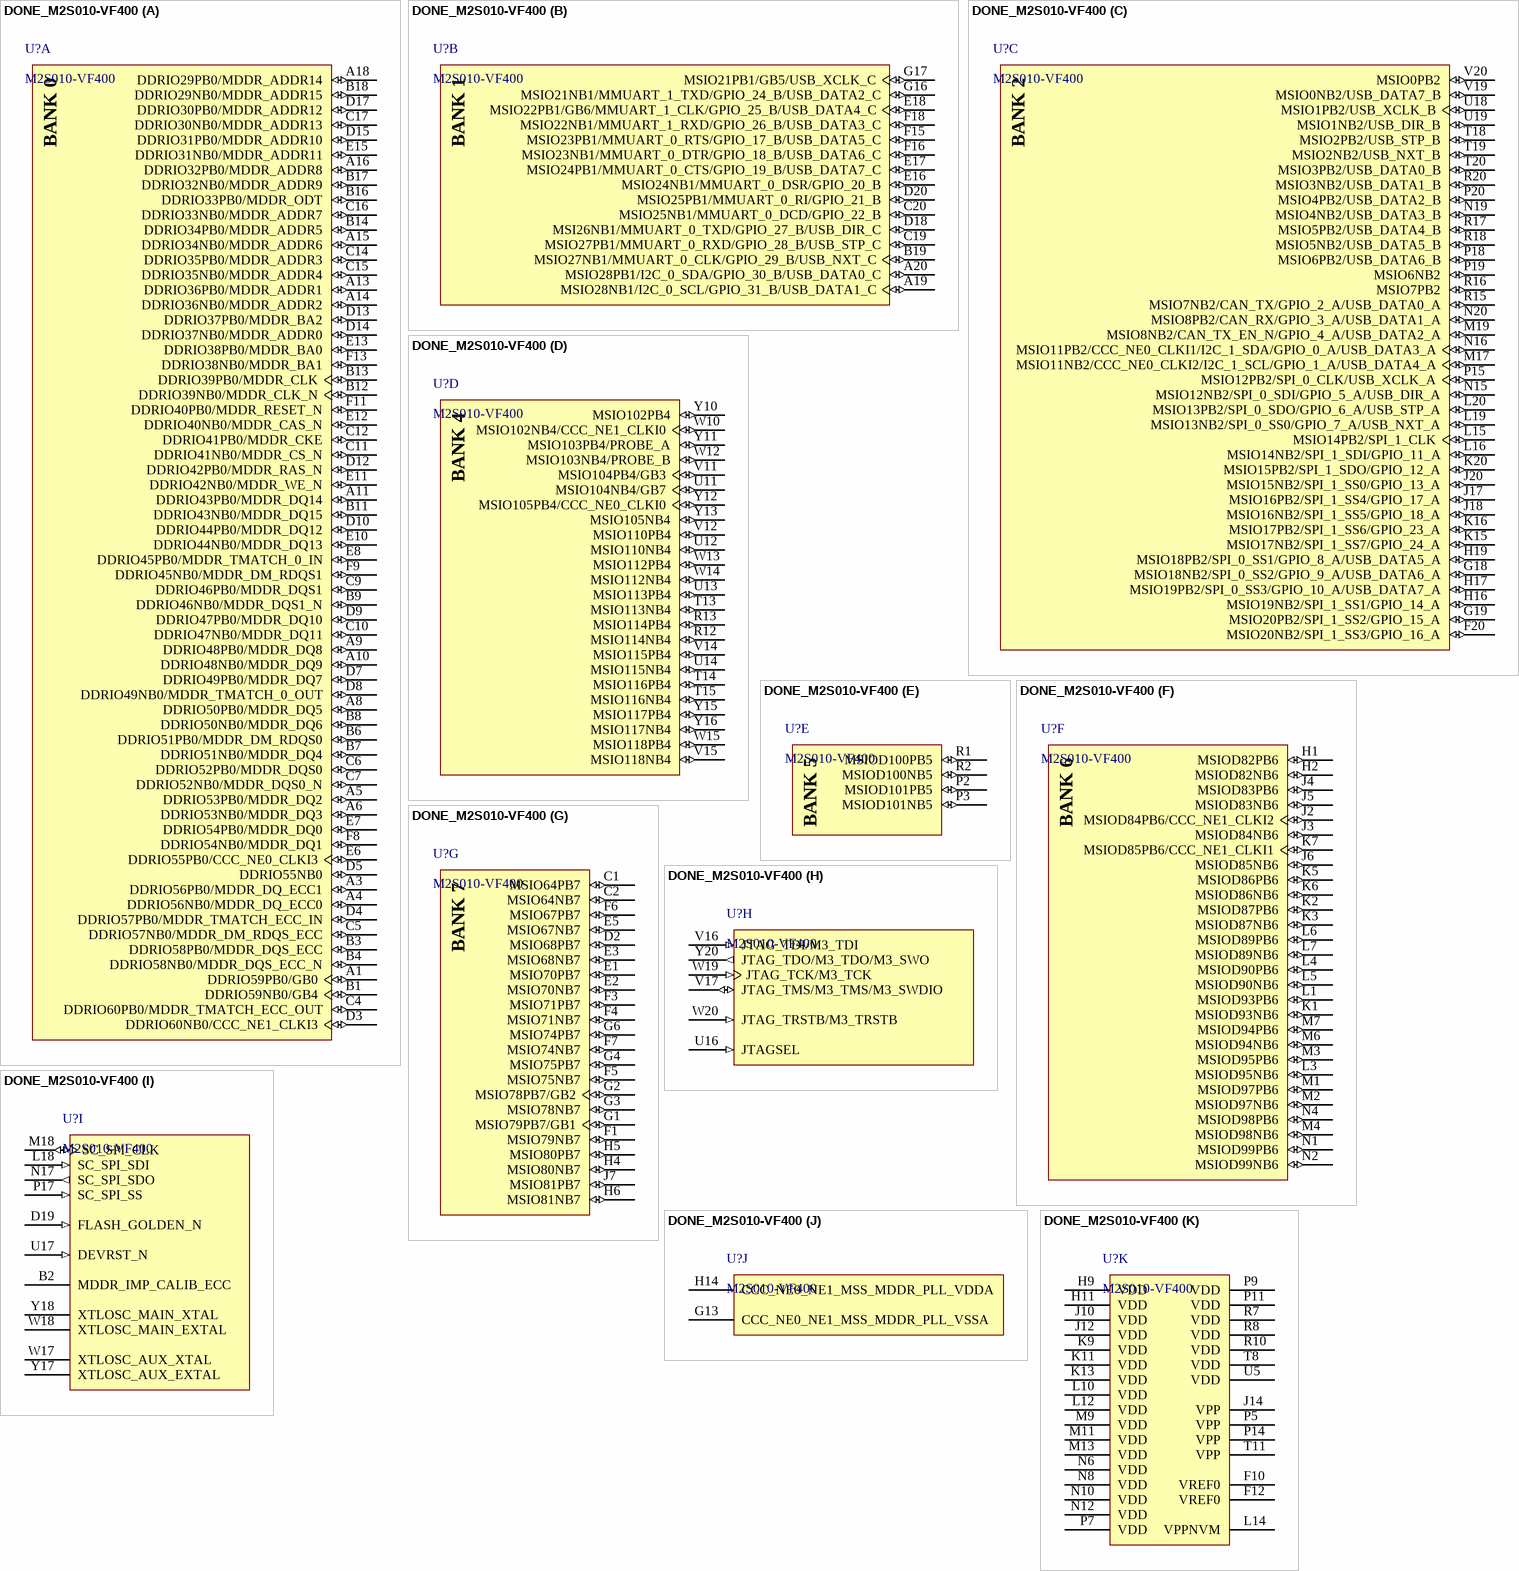
[diagram p1: symbol DONE_M2S010-VF400]

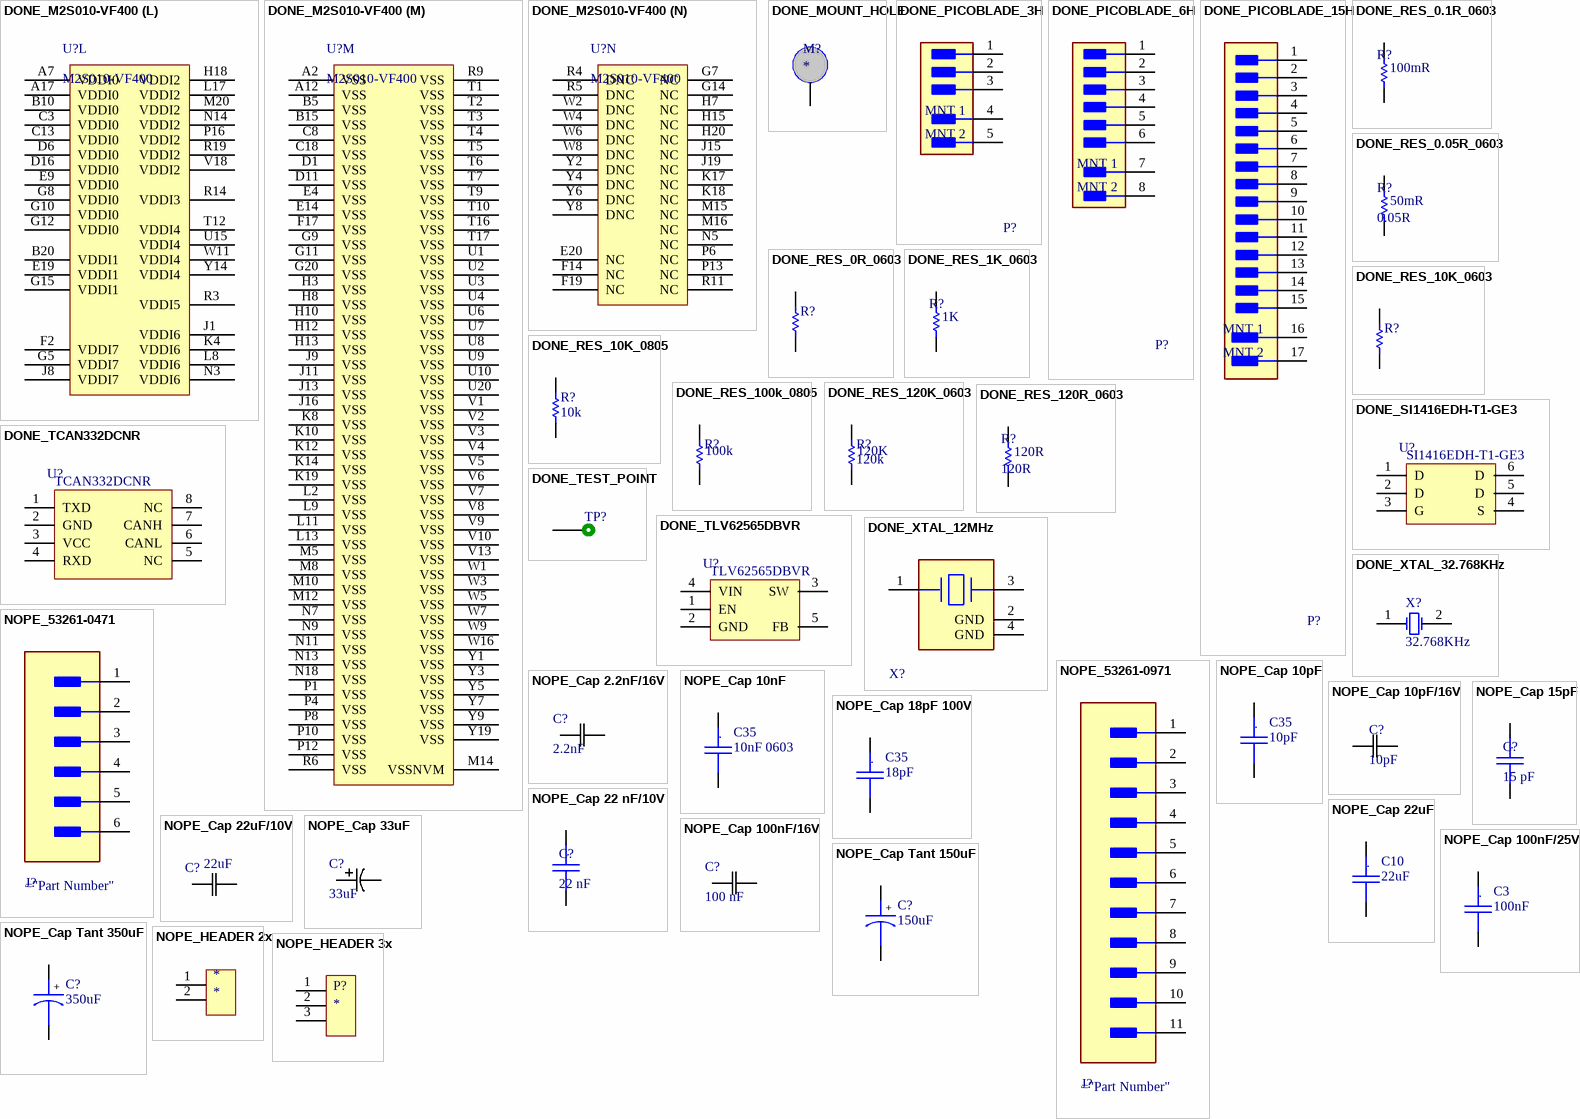
[diagram p2: symbols DONE_M2S010-VF400 to NOPE_HEADER 3x]